# Altium schematic symbol library PE53116NL.SCHLIB: 1 symbol
Pins are listed as number, name and electrical type; pins without a type are passive.

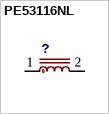
[diagram p0: symbol PE53116NL]

## PE53116NL
designator ?
footprint SFT1030
pins: 1, 2